# Altium footprint library CQFP_Sq_63P_Ctr_M.PcbLib: 5 footprints
Each footprint in its own frame and in the unit in brackets; x right, y up, seen from the top. Pads: shape width x height; smd on the part's side, far side on the other; paste and mask are expansions set on the pad; w line width, h text height; cw(c..) or ccw(c..) is an arc to the next point about the centre after c.
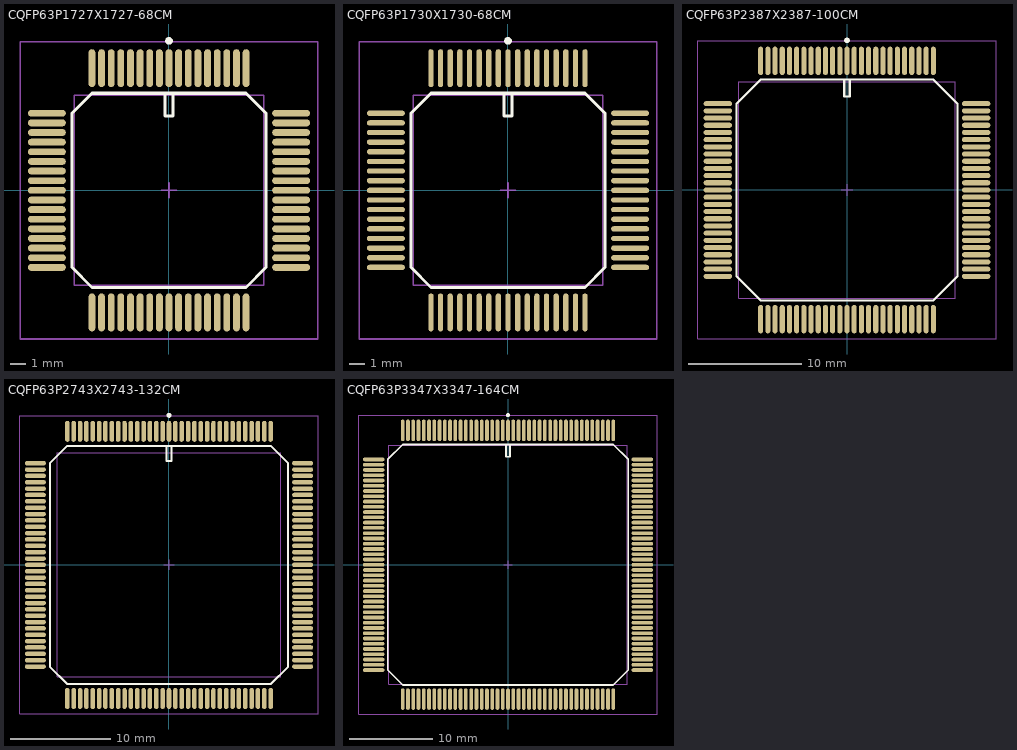
[diagram p0: the footprints below, top view; thin cyan lines are the x and y axes]

## CQFP63P1727X1727-68CM [mm] "68-Pin Ceramic Quad Flat Pack 0.635 mm Pitch"
height 3.9
pads (68):
  oval 0.45x2.5 smd: 1(0,8.05) 2(-0.635,8.05) 3(-1.27,8.05) 4(-1.905,8.05) 5(-2.54,8.05) 6(-3.175,8.05) 7(-3.81,8.05) 8(-4.445,8.05) 9(-5.08,8.05) 27(-5.08,-8.05) 28(-4.445,-8.05) 29(-3.81,-8.05) 30(-3.175,-8.05) 31(-2.54,-8.05) 32(-1.905,-8.05) 33(-1.27,-8.05) 34(-0.635,-8.05) 35(0,-8.05) 36(0.635,-8.05) 37(1.27,-8.05) 38(1.905,-8.05) 39(2.54,-8.05) 40(3.175,-8.05) 41(3.81,-8.05) 42(4.445,-8.05) 43(5.08,-8.05) 61(5.08,8.05) 62(4.445,8.05) 63(3.81,8.05) 64(3.175,8.05) 65(2.54,8.05) 66(1.905,8.05) 67(1.27,8.05) 68(0.635,8.05)
  oval 2.5x0.45 smd: 10(-8.05,5.08) 11(-8.05,4.445) 12(-8.05,3.81) 13(-8.05,3.175) 14(-8.05,2.54) 15(-8.05,1.905) 16(-8.05,1.27) 17(-8.05,0.635) 18(-8.05,0) 19(-8.05,-0.635) 20(-8.05,-1.27) 21(-8.05,-1.905) 22(-8.05,-2.54) 23(-8.05,-3.175) 24(-8.05,-3.81) 25(-8.05,-4.445) 26(-8.05,-5.08) 44(8.05,-5.08) 45(8.05,-4.445) 46(8.05,-3.81) 47(8.05,-3.175) 48(8.05,-2.54) 49(8.05,-1.905) 50(8.05,-1.27) 51(8.05,-0.635) 52(8.05,0) 53(8.05,0.635) 54(8.05,1.27) 55(8.05,1.905) 56(8.05,2.54) 57(8.05,3.175) 58(8.05,3.81) 59(8.05,4.445) 60(8.05,5.08)
Top Overlay:
  circle w0.25: c0,9.85 r0.125
  lines w0.2: -0.25,6.4 -0.25,4.9 0.25,4.9 0.25,6.4 ; -6.4,-5.08 -5.08,-6.4 5.08,-6.4 6.4,-5.08 6.4,5.08 5.08,6.4 -5.08,6.4 -6.4,5.08 -6.4,-5.08
Mechanical 13:
  lines w0.1: -6.255,-6.255 6.255,-6.255 6.255,6.255 -6.255,6.255 -6.255,-6.255
Mechanical 15:
  lines w0.1: -0.5,0 0.5,0 ; 0,-0.5 0,0.5 ; -9.8,-9.8 9.8,-9.8 9.8,9.8 -9.8,9.8 -9.8,-9.8
3D body: height 3.9, standoff 0, extent -6.255,-6.255 6.255,6.255

## CQFP63P1730X1730-68CM [mm] "68-Pin Ceramic Quad Flat Pack 0.635 mm Pitch"
height 4
pads (68):
  oval 0.35x2.5 smd: 1(0,8.05) 2(-0.635,8.05) 3(-1.27,8.05) 4(-1.905,8.05) 5(-2.54,8.05) 6(-3.175,8.05) 7(-3.81,8.05) 8(-4.445,8.05) 9(-5.08,8.05) 27(-5.08,-8.05) 28(-4.445,-8.05) 29(-3.81,-8.05) 30(-3.175,-8.05) 31(-2.54,-8.05) 32(-1.905,-8.05) 33(-1.27,-8.05) 34(-0.635,-8.05) 35(0,-8.05) 36(0.635,-8.05) 37(1.27,-8.05) 38(1.905,-8.05) 39(2.54,-8.05) 40(3.175,-8.05) 41(3.81,-8.05) 42(4.445,-8.05) 43(5.08,-8.05) 61(5.08,8.05) 62(4.445,8.05) 63(3.81,8.05) 64(3.175,8.05) 65(2.54,8.05) 66(1.905,8.05) 67(1.27,8.05) 68(0.635,8.05)
  oval 2.5x0.35 smd: 10(-8.05,5.08) 11(-8.05,4.445) 12(-8.05,3.81) 13(-8.05,3.175) 14(-8.05,2.54) 15(-8.05,1.905) 16(-8.05,1.27) 17(-8.05,0.635) 18(-8.05,0) 19(-8.05,-0.635) 20(-8.05,-1.27) 21(-8.05,-1.905) 22(-8.05,-2.54) 23(-8.05,-3.175) 24(-8.05,-3.81) 25(-8.05,-4.445) 26(-8.05,-5.08) 44(8.05,-5.08) 45(8.05,-4.445) 46(8.05,-3.81) 47(8.05,-3.175) 48(8.05,-2.54) 49(8.05,-1.905) 50(8.05,-1.27) 51(8.05,-0.635) 52(8.05,0) 53(8.05,0.635) 54(8.05,1.27) 55(8.05,1.905) 56(8.05,2.54) 57(8.05,3.175) 58(8.05,3.81) 59(8.05,4.445) 60(8.05,5.08)
Top Overlay:
  circle w0.25: c0,9.85 r0.125
  lines w0.2: -0.25,6.4 -0.25,4.9 0.25,4.9 0.25,6.4 ; -6.4,-5.08 -6.4,5.08 -5.08,6.4 5.08,6.4 6.4,5.08 6.4,-5.08 5.08,-6.4 -5.08,-6.4 -6.4,-5.08
Mechanical 13:
  lines w0.1: -6.255,-6.255 -6.255,6.255 6.255,6.255 6.255,-6.255 -6.255,-6.255
Mechanical 15:
  lines w0.1: -0.5,0 0.5,0 ; 0,-0.5 0,0.5 ; -9.8,-9.8 -9.8,9.8 9.8,9.8 9.8,-9.8 -9.8,-9.8
3D body: height 4, standoff 0, extent -6.255,-6.255 6.255,6.255

## CQFP63P2387X2387-100CM [mm] "100-Pin Ceramic Brazed Quad Flat Pack (CB100)"
height 3.5
pads (100):
  oval 0.45x2.5 smd: 1(0,11.4) 2(-0.635,11.4) 3(-1.27,11.4) 4(-1.905,11.4) 5(-2.54,11.4) 6(-3.175,11.4) 7(-3.81,11.4) 8(-4.445,11.4) 9(-5.08,11.4) 10(-5.715,11.4) 11(-6.35,11.4) 12(-6.985,11.4) 13(-7.62,11.4) 39(-7.62,-11.4) 40(-6.985,-11.4) 41(-6.35,-11.4) 42(-5.715,-11.4) 43(-5.08,-11.4) 44(-4.445,-11.4) 45(-3.81,-11.4) 46(-3.175,-11.4) 47(-2.54,-11.4) 48(-1.905,-11.4) 49(-1.27,-11.4) 50(-0.635,-11.4) 51(0,-11.4) 52(0.635,-11.4) 53(1.27,-11.4) 54(1.905,-11.4) 55(2.54,-11.4) 56(3.175,-11.4) 57(3.81,-11.4) 58(4.445,-11.4) 59(5.08,-11.4) 60(5.715,-11.4) 61(6.35,-11.4) 62(6.985,-11.4) 63(7.62,-11.4) 89(7.62,11.4) 90(6.985,11.4) 91(6.35,11.4) 92(5.715,11.4) 93(5.08,11.4) 94(4.445,11.4) 95(3.81,11.4) 96(3.175,11.4) 97(2.54,11.4) 98(1.905,11.4) 99(1.27,11.4) 100(0.635,11.4)
  oval 2.5x0.45 smd: 14(-11.4,7.62) 15(-11.4,6.985) 16(-11.4,6.35) 17(-11.4,5.715) 18(-11.4,5.08) 19(-11.4,4.445) 20(-11.4,3.81) 21(-11.4,3.175) 22(-11.4,2.54) 23(-11.4,1.905) 24(-11.4,1.27) 25(-11.4,0.635) 26(-11.4,0) 27(-11.4,-0.635) 28(-11.4,-1.27) 29(-11.4,-1.905) 30(-11.4,-2.54) 31(-11.4,-3.175) 32(-11.4,-3.81) 33(-11.4,-4.445) 34(-11.4,-5.08) 35(-11.4,-5.715) 36(-11.4,-6.35) 37(-11.4,-6.985) 38(-11.4,-7.62) 64(11.4,-7.62) 65(11.4,-6.985) 66(11.4,-6.35) 67(11.4,-5.715) 68(11.4,-5.08) 69(11.4,-4.445) 70(11.4,-3.81) 71(11.4,-3.175) 72(11.4,-2.54) 73(11.4,-1.905) 74(11.4,-1.27) 75(11.4,-0.635) 76(11.4,0) 77(11.4,0.635) 78(11.4,1.27) 79(11.4,1.905) 80(11.4,2.54) 81(11.4,3.175) 82(11.4,3.81) 83(11.4,4.445) 84(11.4,5.08) 85(11.4,5.715) 86(11.4,6.35) 87(11.4,6.985) 88(11.4,7.62)
Top Overlay:
  circle w0.25: c0,13.2 r0.125
  lines w0.2: -0.25,9.75 -0.25,8.25 0.25,8.25 0.25,9.75 ; -9.75,-7.62 -7.62,-9.75 7.62,-9.75 9.75,-7.62 9.75,7.62 7.62,9.75 -7.62,9.75 -9.75,7.62 -9.75,-7.62
Mechanical 13:
  lines w0.1: -9.555,-9.555 9.555,-9.555 9.555,9.555 -9.555,9.555 -9.555,-9.555
Mechanical 15:
  lines w0.1: -0.5,0 0.5,0 ; 0,-0.5 0,0.5 ; -13.15,-13.15 13.15,-13.15 13.15,13.15 -13.15,13.15 -13.15,-13.15
3D body: height 3.5, standoff 0, extent -9.555,-9.555 9.555,9.555

## CQFP63P2743X2743-132CM [mm] "CQFP, 132-Leads, Body 22.4x22.4mm; Pitch 0.635mm, Gullwing Leadform, IPC Low Density"
height 4.4
pads (132):
  oval 0.45x2.1 smd: 1(0,13.35) 2(-0.635,13.35) 3(-1.27,13.35) 4(-1.905,13.35) 5(-2.54,13.35) 6(-3.175,13.35) 7(-3.81,13.35) 8(-4.445,13.35) 9(-5.08,13.35) 10(-5.715,13.35) 11(-6.35,13.35) 12(-6.985,13.35) 13(-7.62,13.35) 14(-8.255,13.35) 15(-8.89,13.35) 16(-9.525,13.35) 17(-10.16,13.35) 51(-10.16,-13.35) 52(-9.525,-13.35) 53(-8.89,-13.35) 54(-8.255,-13.35) 55(-7.62,-13.35) 56(-6.985,-13.35) 57(-6.35,-13.35) 58(-5.715,-13.35) 59(-5.08,-13.35) 60(-4.445,-13.35) 61(-3.81,-13.35) 62(-3.175,-13.35) 63(-2.54,-13.35) 64(-1.905,-13.35) 65(-1.27,-13.35) 66(-0.635,-13.35) 67(0,-13.35) 68(0.635,-13.35) 69(1.27,-13.35) 70(1.905,-13.35) 71(2.54,-13.35) 72(3.175,-13.35) 73(3.81,-13.35) 74(4.445,-13.35) 75(5.08,-13.35) 76(5.715,-13.35) 77(6.35,-13.35) 78(6.985,-13.35) 79(7.62,-13.35) 80(8.255,-13.35) 81(8.89,-13.35) 82(9.525,-13.35) 83(10.16,-13.35) 117(10.16,13.35) 118(9.525,13.35) 119(8.89,13.35) 120(8.255,13.35) 121(7.62,13.35) 122(6.985,13.35) 123(6.35,13.35) 124(5.715,13.35) 125(5.08,13.35) 126(4.445,13.35) 127(3.81,13.35) 128(3.175,13.35) 129(2.54,13.35) 130(1.905,13.35) 131(1.27,13.35) 132(0.635,13.35)
  oval 2.1x0.45 smd: 18(-13.35,10.16) 19(-13.35,9.525) 20(-13.35,8.89) 21(-13.35,8.255) 22(-13.35,7.62) 23(-13.35,6.985) 24(-13.35,6.35) 25(-13.35,5.715) 26(-13.35,5.08) 27(-13.35,4.445) 28(-13.35,3.81) 29(-13.35,3.175) 30(-13.35,2.54) 31(-13.35,1.905) 32(-13.35,1.27) 33(-13.35,0.635) 34(-13.35,0) 35(-13.35,-0.635) 36(-13.35,-1.27) 37(-13.35,-1.905) 38(-13.35,-2.54) 39(-13.35,-3.175) 40(-13.35,-3.81) 41(-13.35,-4.445) 42(-13.35,-5.08) 43(-13.35,-5.715) 44(-13.35,-6.35) 45(-13.35,-6.985) 46(-13.35,-7.62) 47(-13.35,-8.255) 48(-13.35,-8.89) 49(-13.35,-9.525) 50(-13.35,-10.16) 84(13.35,-10.16) 85(13.35,-9.525) 86(13.35,-8.89) 87(13.35,-8.255) 88(13.35,-7.62) 89(13.35,-6.985) 90(13.35,-6.35) 91(13.35,-5.715) 92(13.35,-5.08) 93(13.35,-4.445) 94(13.35,-3.81) 95(13.35,-3.175) 96(13.35,-2.54) 97(13.35,-1.905) 98(13.35,-1.27) 99(13.35,-0.635) 100(13.35,0) 101(13.35,0.635) 102(13.35,1.27) 103(13.35,1.905) 104(13.35,2.54) 105(13.35,3.175) 106(13.35,3.81) 107(13.35,4.445) 108(13.35,5.08) 109(13.35,5.715) 110(13.35,6.35) 111(13.35,6.985) 112(13.35,7.62) 113(13.35,8.255) 114(13.35,8.89) 115(13.35,9.525) 116(13.35,10.16)
Top Overlay:
  circle w0.25: c0,14.95 r0.125
  lines w0.2: -0.25,11.9 -0.25,10.4 0.25,10.4 0.25,11.9 ; -11.9,-10.16 -10.16,-11.9 10.16,-11.9 11.9,-10.16 11.9,10.16 10.16,11.9 -10.16,11.9 -11.9,10.16 -11.9,-10.16
Mechanical 13:
  lines w0.1: -11.18,-11.18 11.18,-11.18 11.18,11.18 -11.18,11.18 -11.18,-11.18
Mechanical 15:
  lines w0.1: -0.5,0 0.5,0 ; 0,-0.5 0,0.5 ; -14.9,-14.9 14.9,-14.9 14.9,14.9 -14.9,14.9 -14.9,-14.9
3D body: height 4.4, standoff 0, extent -11.18,-11.18 11.18,11.18

## CQFP63P3347X3347-164CM [mm] "164-Pin Ceramic Brazed Quad Flat Pack (CB164)"
height 3.4
pads (164):
  oval 0.45x2.6 smd: 1(0,16.2) 2(-0.635,16.2) 3(-1.27,16.2) 4(-1.905,16.2) 5(-2.54,16.2) 6(-3.175,16.2) 7(-3.81,16.2) 8(-4.445,16.2) 9(-5.08,16.2) 10(-5.715,16.2) 11(-6.35,16.2) 12(-6.985,16.2) 13(-7.62,16.2) 14(-8.255,16.2) 15(-8.89,16.2) 16(-9.525,16.2) 17(-10.16,16.2) 18(-10.795,16.2) 19(-11.43,16.2) 20(-12.065,16.2) 21(-12.7,16.2) 63(-12.7,-16.2) 64(-12.065,-16.2) 65(-11.43,-16.2) 66(-10.795,-16.2) 67(-10.16,-16.2) 68(-9.525,-16.2) 69(-8.89,-16.2) 70(-8.255,-16.2) 71(-7.62,-16.2) 72(-6.985,-16.2) 73(-6.35,-16.2) 74(-5.715,-16.2) 75(-5.08,-16.2) 76(-4.445,-16.2) 77(-3.81,-16.2) 78(-3.175,-16.2) 79(-2.54,-16.2) 80(-1.905,-16.2) 81(-1.27,-16.2) 82(-0.635,-16.2) 83(0,-16.2) 84(0.635,-16.2) 85(1.27,-16.2) 86(1.905,-16.2) 87(2.54,-16.2) 88(3.175,-16.2) 89(3.81,-16.2) 90(4.445,-16.2) 91(5.08,-16.2) 92(5.715,-16.2) 93(6.35,-16.2) 94(6.985,-16.2) 95(7.62,-16.2) 96(8.255,-16.2) 97(8.89,-16.2) 98(9.525,-16.2) 99(10.16,-16.2) 100(10.795,-16.2) 101(11.43,-16.2) 102(12.065,-16.2) 103(12.7,-16.2) 145(12.7,16.2) 146(12.065,16.2) 147(11.43,16.2) 148(10.795,16.2) 149(10.16,16.2) 150(9.525,16.2) 151(8.89,16.2) 152(8.255,16.2) 153(7.62,16.2) 154(6.985,16.2) 155(6.35,16.2) 156(5.715,16.2) 157(5.08,16.2) 158(4.445,16.2) 159(3.81,16.2) 160(3.175,16.2) 161(2.54,16.2) 162(1.905,16.2) 163(1.27,16.2) 164(0.635,16.2)
  oval 2.6x0.45 smd: 22(-16.2,12.7) 23(-16.2,12.065) 24(-16.2,11.43) 25(-16.2,10.795) 26(-16.2,10.16) 27(-16.2,9.525) 28(-16.2,8.89) 29(-16.2,8.255) 30(-16.2,7.62) 31(-16.2,6.985) 32(-16.2,6.35) 33(-16.2,5.715) 34(-16.2,5.08) 35(-16.2,4.445) 36(-16.2,3.81) 37(-16.2,3.175) 38(-16.2,2.54) 39(-16.2,1.905) 40(-16.2,1.27) 41(-16.2,0.635) 42(-16.2,0) 43(-16.2,-0.635) 44(-16.2,-1.27) 45(-16.2,-1.905) 46(-16.2,-2.54) 47(-16.2,-3.175) 48(-16.2,-3.81) 49(-16.2,-4.445) 50(-16.2,-5.08) 51(-16.2,-5.715) 52(-16.2,-6.35) 53(-16.2,-6.985) 54(-16.2,-7.62) 55(-16.2,-8.255) 56(-16.2,-8.89) 57(-16.2,-9.525) 58(-16.2,-10.16) 59(-16.2,-10.795) 60(-16.2,-11.43) 61(-16.2,-12.065) 62(-16.2,-12.7) 104(16.2,-12.7) 105(16.2,-12.065) 106(16.2,-11.43) 107(16.2,-10.795) 108(16.2,-10.16) 109(16.2,-9.525) 110(16.2,-8.89) 111(16.2,-8.255) 112(16.2,-7.62) 113(16.2,-6.985) 114(16.2,-6.35) 115(16.2,-5.715) 116(16.2,-5.08) 117(16.2,-4.445) 118(16.2,-3.81) 119(16.2,-3.175) 120(16.2,-2.54) 121(16.2,-1.905) 122(16.2,-1.27) 123(16.2,-0.635) 124(16.2,0) 125(16.2,0.635) 126(16.2,1.27) 127(16.2,1.905) 128(16.2,2.54) 129(16.2,3.175) 130(16.2,3.81) 131(16.2,4.445) 132(16.2,5.08) 133(16.2,5.715) 134(16.2,6.35) 135(16.2,6.985) 136(16.2,7.62) 137(16.2,8.255) 138(16.2,8.89) 139(16.2,9.525) 140(16.2,10.16) 141(16.2,10.795) 142(16.2,11.43) 143(16.2,12.065) 144(16.2,12.7)
Top Overlay:
  circle w0.25: c0,18.05 r0.125
  lines w0.2: -0.25,14.5 -0.25,13 0.25,13 0.25,14.5 ; -14.5,-12.7 -14.5,12.7 -12.7,14.5 12.7,14.5 14.5,12.7 14.5,-12.7 12.7,-14.5 -12.7,-14.5 -14.5,-12.7
Mechanical 13:
  lines w0.1: -14.385,-14.385 -14.385,14.385 14.385,14.385 14.385,-14.385 -14.385,-14.385
Mechanical 15:
  lines w0.1: -0.5,0 0.5,0 ; 0,-0.5 0,0.5 ; -18,-18 -18,18 18,18 18,-18 -18,-18
3D body: height 3.4, standoff 0, extent -14.385,-14.385 14.385,14.385